# Altium schematic symbol library Congtac4Bit.SchLib: 1 symbol
Pins are listed as number, name and electrical type; pins without a type are passive.

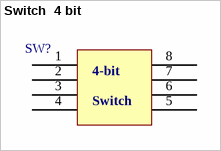
[diagram p0: symbol Switch  4 bit]

## Switch  4 bit
designator SW?, comment Switch 4bit  (value not drawn)
footprint SW-4-BIT
footprint SW-4-BIT-SMD
pins: 1, 2, 3, 4, 5, 6, 7, 8
text: 4-bit; Switch